# EAGLE library part STM32H755IIT6 (library STM32H755IIT6)
ARM Microcontrollers - MCU Source: Datasheet <https://www.st.com/resource/en/datasheet/stm32h755ii.pdf>
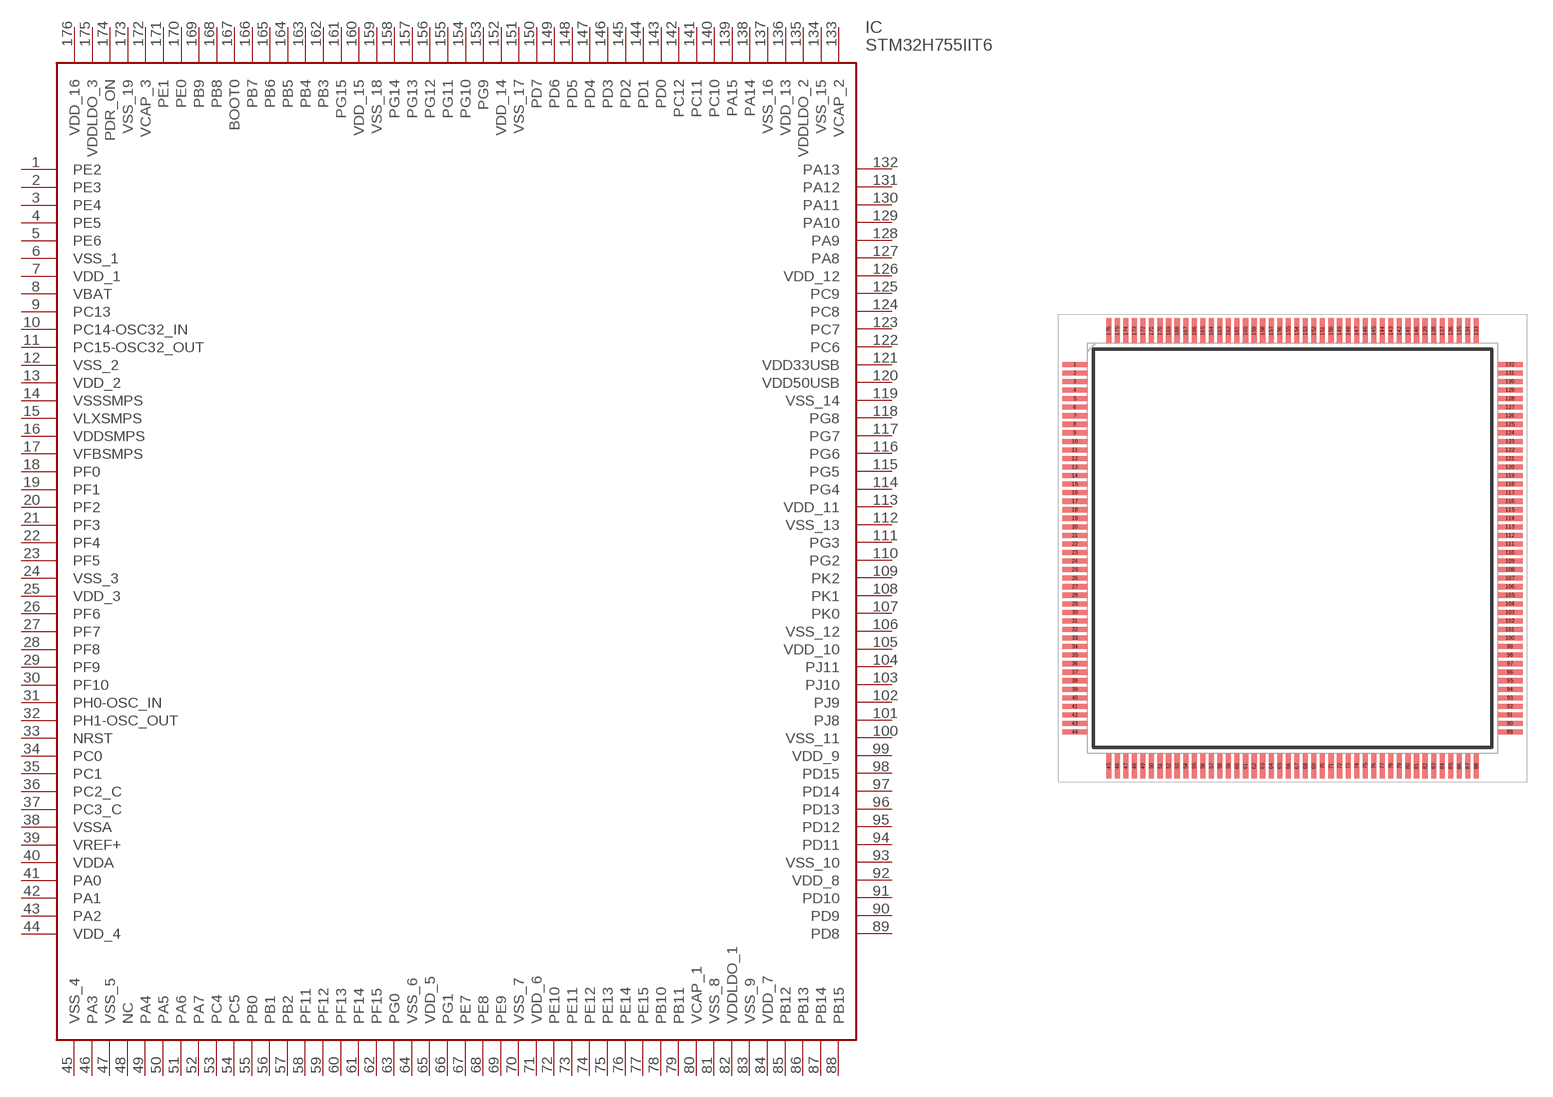
[diagram p0: symbol with the pads of QFP50P2600X2600X160-176N; footprint QFP50P2600X2600X160-176N]

Designator prefix IC

## STM32H755IIT6 (Arrow_Part_Number: STM32H755IIT6; Arrow_Price-Stock: https://www.arrow.com/en/products/stm32h755iit6/stmicroelectronics?region=nac; Description: ARM Microcontrollers - MCU; Height: 1.6mm; Manufacturer_Name: STMicroelectronics; Manufacturer_Part_Number: STM32H755IIT6; Mouser_Part_Number: 511-STM32H755IIT6; Mouser_Price-Stock: https://www.mouser.co.uk/ProductDetail/STMicroelectronics/STM32H755IIT6?qs=vLWxofP3U2y54l1JsNdchA%3D%3D)  [QFP50P2600X2600X160-176N]
1  PE2
2  PE3
3  PE4
4  PE5
5  PE6
6  VSS_1
7  VDD_1
8  VBAT
9  PC13
10  PC14-OSC32_IN
11  PC15-OSC32_OUT
12  VSS_2
13  VDD_2
14  VSSSMPS
15  VLXSMPS
16  VDDSMPS
17  VFBSMPS
18  PF0
19  PF1
20  PF2
21  PF3
22  PF4
23  PF5
24  VSS_3
25  VDD_3
26  PF6
27  PF7
28  PF8
29  PF9
30  PF10
31  PH0-OSC_IN
32  PH1-OSC_OUT
33  NRST
34  PC0
35  PC1
36  PC2_C
37  PC3_C
38  VSSA
39  VREF+
40  VDDA
41  PA0
42  PA1
43  PA2
44  VDD_4
45  VSS_4
46  PA3
47  VSS_5
48  NC  nc
49  PA4
50  PA5
51  PA6
52  PA7
53  PC4
54  PC5
55  PB0
56  PB1
57  PB2
58  PF11
59  PF12
60  PF13
61  PF14
62  PF15
63  PG0
64  VSS_6
65  VDD_5
66  PG1
67  PE7
68  PE8
69  PE9
70  VSS_7
71  VDD_6
72  PE10
73  PE11
74  PE12
75  PE13
76  PE14
77  PE15
78  PB10
79  PB11
80  VCAP_1
81  VSS_8
82  VDDLDO_1
83  VSS_9
84  VDD_7
85  PB12
86  PB13
87  PB14
88  PB15
89  PD8
90  PD9
91  PD10
92  VDD_8
93  VSS_10
94  PD11
95  PD12
96  PD13
97  PD14
98  PD15
99  VDD_9
100  VSS_11
101  PJ8
102  PJ9
103  PJ10
104  PJ11
105  VDD_10
106  VSS_12
107  PK0
108  PK1
109  PK2
110  PG2
111  PG3
112  VSS_13
113  VDD_11
114  PG4
115  PG5
116  PG6
117  PG7
118  PG8
119  VSS_14
120  VDD50USB
121  VDD33USB
122  PC6
123  PC7
124  PC8
125  PC9
126  VDD_12
127  PA8
128  PA9
129  PA10
130  PA11
131  PA12
132  PA13
133  VCAP_2
134  VSS_15
135  VDDLDO_2
136  VDD_13
137  VSS_16
138  PA14
139  PA15
140  PC10
141  PC11
142  PC12
143  PD0
144  PD1
145  PD2
146  PD3
147  PD4
148  PD5
149  PD6
150  PD7
151  VSS_17
152  VDD_14
153  PG9
154  PG10
155  PG11
156  PG12
157  PG13
158  PG14
159  VSS_18
160  VDD_15
161  PG15
162  PB3
163  PB4
164  PB5
165  PB6
166  PB7
167  BOOT0
168  PB8
169  PB9
170  PE0
171  PE1
172  VCAP_3
173  VSS_19
174  PDR_ON
175  VDDLDO_3
176  VDD_16

## Footprint QFP50P2600X2600X160-176N (pad centres in mm)
LQFP176, 24 x 24 mm,
smd 1.45 x 0.3: 1 -12.725,10.75; 2 -12.725,10.25; 3 -12.725,9.75; 4 -12.725,9.25; 5 -12.725,8.75; 6 -12.725,8.25; 7 -12.725,7.75; 8 -12.725,7.25; 9 -12.725,6.75; 10 -12.725,6.25; 11 -12.725,5.75; 12 -12.725,5.25; 13 -12.725,4.75; 14 -12.725,4.25; 15 -12.725,3.75; 16 -12.725,3.25; 17 -12.725,2.75; 18 -12.725,2.25; 19 -12.725,1.75; 20 -12.725,1.25; 21 -12.725,0.75; 22 -12.725,0.25; 23 -12.725,-0.25; 24 -12.725,-0.75; 25 -12.725,-1.25; 26 -12.725,-1.75; 27 -12.725,-2.25; 28 -12.725,-2.75; 29 -12.725,-3.25; 30 -12.725,-3.75; 31 -12.725,-4.25; 32 -12.725,-4.75; 33 -12.725,-5.25; 34 -12.725,-5.75; 35 -12.725,-6.25; 36 -12.725,-6.75; 37 -12.725,-7.25; 38 -12.725,-7.75; 39 -12.725,-8.25; 40 -12.725,-8.75; 41 -12.725,-9.25; 42 -12.725,-9.75; 43 -12.725,-10.25; 44 -12.725,-10.75; 89 12.725,-10.75; 90 12.725,-10.25; 91 12.725,-9.75; 92 12.725,-9.25; 93 12.725,-8.75; 94 12.725,-8.25; 95 12.725,-7.75; 96 12.725,-7.25; 97 12.725,-6.75; 98 12.725,-6.25; 99 12.725,-5.75; 100 12.725,-5.25; 101 12.725,-4.75; 102 12.725,-4.25; 103 12.725,-3.75; 104 12.725,-3.25; 105 12.725,-2.75; 106 12.725,-2.25; 107 12.725,-1.75; 108 12.725,-1.25; 109 12.725,-0.75; 110 12.725,-0.25; 111 12.725,0.25; 112 12.725,0.75; 113 12.725,1.25; 114 12.725,1.75; 115 12.725,2.25; 116 12.725,2.75; 117 12.725,3.25; 118 12.725,3.75; 119 12.725,4.25; 120 12.725,4.75; 121 12.725,5.25; 122 12.725,5.75; 123 12.725,6.25; 124 12.725,6.75; 125 12.725,7.25; 126 12.725,7.75; 127 12.725,8.25; 128 12.725,8.75; 129 12.725,9.25; 130 12.725,9.75; 131 12.725,10.25; 132 12.725,10.75
smd 0.3 x 1.45: 45 -10.75,-12.725; 46 -10.25,-12.725; 47 -9.75,-12.725; 48 -9.25,-12.725; 49 -8.75,-12.725; 50 -8.25,-12.725; 51 -7.75,-12.725; 52 -7.25,-12.725; 53 -6.75,-12.725; 54 -6.25,-12.725; 55 -5.75,-12.725; 56 -5.25,-12.725; 57 -4.75,-12.725; 58 -4.25,-12.725; 59 -3.75,-12.725; 60 -3.25,-12.725; 61 -2.75,-12.725; 62 -2.25,-12.725; 63 -1.75,-12.725; 64 -1.25,-12.725; 65 -0.75,-12.725; 66 -0.25,-12.725; 67 0.25,-12.725; 68 0.75,-12.725; 69 1.25,-12.725; 70 1.75,-12.725; 71 2.25,-12.725; 72 2.75,-12.725; 73 3.25,-12.725; 74 3.75,-12.725; 75 4.25,-12.725; 76 4.75,-12.725; 77 5.25,-12.725; 78 5.75,-12.725; 79 6.25,-12.725; 80 6.75,-12.725; 81 7.25,-12.725; 82 7.75,-12.725; 83 8.25,-12.725; 84 8.75,-12.725; 85 9.25,-12.725; 86 9.75,-12.725; 87 10.25,-12.725; 88 10.75,-12.725; 133 10.75,12.725; 134 10.25,12.725; 135 9.75,12.725; 136 9.25,12.725; 137 8.75,12.725; 138 8.25,12.725; 139 7.75,12.725; 140 7.25,12.725; 141 6.75,12.725; 142 6.25,12.725; 143 5.75,12.725; 144 5.25,12.725; 145 4.75,12.725; 146 4.25,12.725; 147 3.75,12.725; 148 3.25,12.725; 149 2.75,12.725; 150 2.25,12.725; 151 1.75,12.725; 152 1.25,12.725; 153 0.75,12.725; 154 0.25,12.725; 155 -0.25,12.725; 156 -0.75,12.725; 157 -1.25,12.725; 158 -1.75,12.725; 159 -2.25,12.725; 160 -2.75,12.725; 161 -3.25,12.725; 162 -3.75,12.725; 163 -4.25,12.725; 164 -4.75,12.725; 165 -5.25,12.725; 166 -5.75,12.725; 167 -6.25,12.725; 168 -6.75,12.725; 169 -7.25,12.725; 170 -7.75,12.725; 171 -8.25,12.725; 172 -8.75,12.725; 173 -9.25,12.725; 174 -9.75,12.725; 175 -10.25,12.725; 176 -10.75,12.725